# EAGLE library part C8051F582/3/6/7 (library X893)
http://www.silabs.com/products/mcu/automotive/Pages/C8051F58x59x.aspx
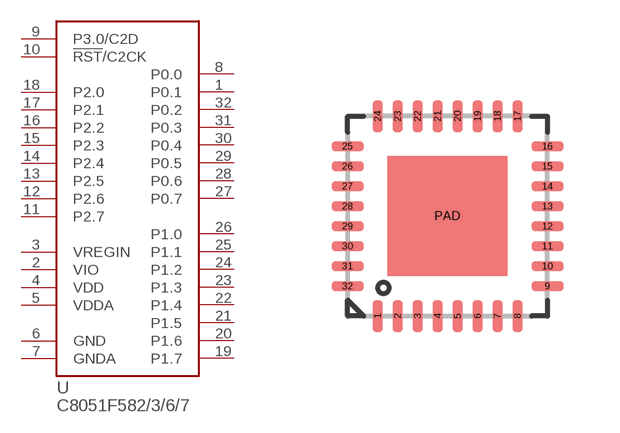
[diagram p106: symbol with the pads of QFN32-5X5; footprint QFN32-5X5]

Designator prefix U

## C8051F582/3/6/7-IQ  [QFN32-5X5]
1  P0.1
2  VIO  pas
3  VREGIN  pas
4  VDD  pas
5  VDDA  pas
6  GND  pas
7  GNDA  pas
8  P0.0
9  P3.0/C2D
10  !RST!/C2CK
11  P2.7
12  P2.6
13  P2.5
14  P2.4
15  P2.3
16  P2.2
17  P2.1
18  P2.0
19  P1.7
20  P1.6
21  P1.5
22  P1.4
23  P1.3
24  P1.2
25  P1.1
26  P1.0
27  P0.7
28  P0.6
29  P0.5
30  P0.4
31  P0.3
32  P0.2

## Footprint QFN32-5X5 (pad centres in mm)
smd 0.25 x 0.8: 1 -1.75,-2.5; 2 -1.25,-2.5; 3 -0.75,-2.5; 4 -0.25,-2.5; 5 0.25,-2.5; 6 0.75,-2.5; 7 1.25,-2.5; 8 1.75,-2.5; 17 1.75,2.5; 18 1.25,2.5; 19 0.75,2.5; 20 0.25,2.5; 21 -0.25,2.5; 22 -0.75,2.5; 23 -1.25,2.5; 24 -1.75,2.5
smd 0.8 x 0.25: 9 2.5,-1.75; 10 2.5,-1.25; 11 2.5,-0.75; 12 2.5,-0.25; 13 2.5,0.25; 14 2.5,0.75; 15 2.5,1.25; 16 2.5,1.75; 25 -2.5,1.75; 26 -2.5,1.25; 27 -2.5,0.75; 28 -2.5,0.25; 29 -2.5,-0.25; 30 -2.5,-0.75; 31 -2.5,-1.25; 32 -2.5,-1.75
smd 0.5 x 0.5: PAD 0,0